# Altium footprint library SOD-323.PcbLib: 1 footprints
Each footprint in its own frame and in the unit in brackets; x right, y up, seen from the top. Pads: shape width x height; smd on the part's side, far side on the other; paste and mask are expansions set on the pad; w line width, h text height; cw(c..) or ccw(c..) is an arc to the next point about the centre after c.
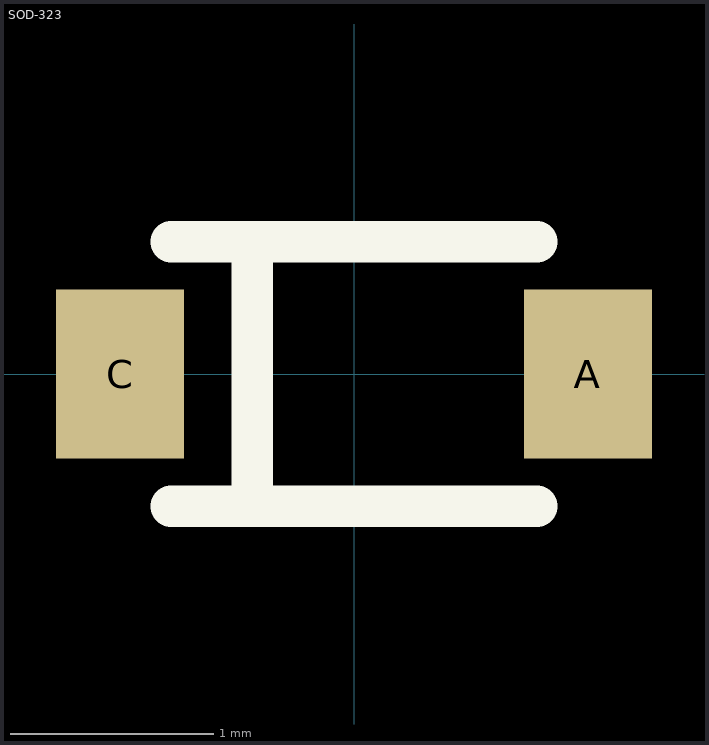
[diagram p0: the footprint, top view; thin cyan lines are the x and y axes]

## SOD-323 [mm]
pads (2):
  rect 0.63x0.83 smd: A(1.15,0) C(-1.15,0)
Top Overlay:
  lines w0.203: -0.9,-0.65 -0.5,-0.65 ; -0.9,0.65 -0.5,0.65 ; 0.9,-0.65 -0.5,-0.65 ; 0.9,0.65 -0.5,0.65 ; -0.5,-0.65 -0.5,0.65
3D body "step_temp.STEP": height 1.17, standoff 0, extent -1.25,-0.64 1.25,0.64